# EAGLE library part LMZ12002 (library project)
2A SIMPLE SWITCHER® Power Module with 20V Maximum Input Voltage From the National Semiconductor Simple Switcher Series. Source: http://www.national.com/profile/snip.cgi/openDS=LMZ12002
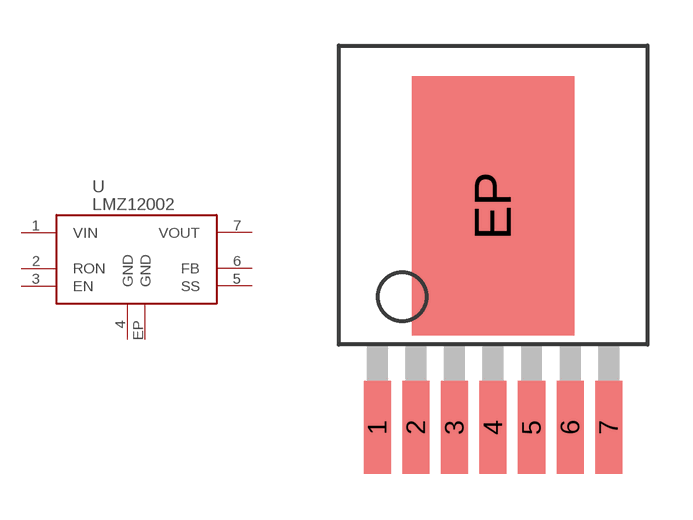
[diagram p9: symbol with the pads of TO-PMOD-7; footprint TO-PMOD-7]

Designator prefix U

## LMZ12002TZ-ADJ  [TO-PMOD-7]
1  VIN  pwr
2  RON  in
3  EN  in
4  GND  pwr
5  SS
6  FB  in
7  VOUT  pas
EP  GND  pwr

## Footprint TO-PMOD-7 (pad centres in mm)
National Switcher 7-pin housing Source: e.g. http://www.national.com/pf/LM/LMZ10503.html
smd 0.89 x 3.06: 1 -3.81,-7.305; 2 -2.54,-7.305; 3 -1.27,-7.305; 4 0,-7.305; 5 1.27,-7.305; 6 2.54,-7.305; 7 3.81,-7.305
smd 5.35 x 8.54: EP 0,0